# Altium footprint library K60_100.PcbLib: 2 footprints
Each footprint in its own frame and in the unit in brackets; x right, y up, seen from the top. Pads: shape width x height; smd on the part's side, far side on the other; paste and mask are expansions set on the pad; w line width, h text height; cw(c..) or ccw(c..) is an arc to the next point about the centre after c.
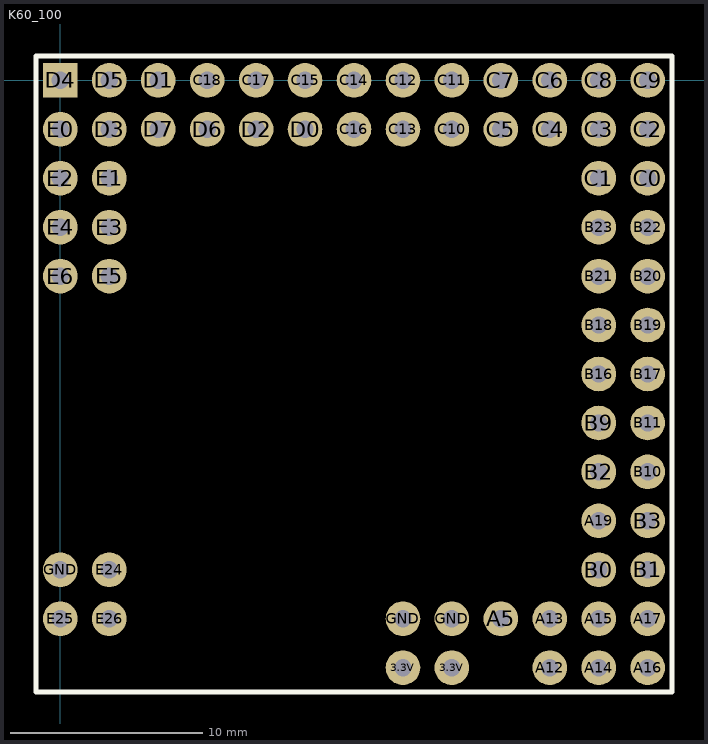
[diagram p0: the footprints below, top view; thin cyan lines are the x and y axes]

## K60_100 [mm]
pads (65):
  round 1.8 hole 0.9: 3.3V(17.78,-30.48) 3.3V(20.32,-30.48) A5(22.86,-27.94) A12(25.4,-30.48) A13(25.4,-27.94) A14(27.94,-30.48) A15(27.94,-27.94) A16(30.48,-30.48) A17(30.48,-27.94) A19(27.94,-22.86) B0(27.94,-25.4) B1(30.48,-25.4) B2(27.94,-20.32) B3(30.48,-22.86) B9(27.94,-17.78) B10(30.48,-20.32) B11(30.48,-17.78) B16(27.94,-15.24) B17(30.48,-15.24) B18(27.94,-12.7) B19(30.48,-12.7) B20(30.48,-10.16) B21(27.94,-10.16) B22(30.48,-7.62) B23(27.94,-7.62) C0(30.48,-5.08) C1(27.94,-5.08) C2(30.48,-2.54) C3(27.94,-2.54) C4(25.4,-2.54) C5(22.86,-2.54) C6(25.4,0) C7(22.86,0) C8(27.94,0) C9(30.48,0) C10(20.32,-2.54) C11(20.32,0) C12(17.78,0) C13(17.78,-2.54) C14(15.24,0) C15(12.7,0) C16(15.24,-2.54) C17(10.16,0) C18(7.62,0) D0(12.7,-2.54) D1(5.08,0) D2(10.16,-2.54) D3(2.54,-2.54) D5(2.54,0) D6(7.62,-2.54) D7(5.08,-2.54) E0(0,-2.54) E1(2.54,-5.08) E2(0,-5.08) E3(2.54,-7.62) E4(0,-7.62) E5(2.54,-10.16) E6(0,-10.16) E24(2.54,-25.4) E25(0,-27.94) E26(2.54,-27.94) GND(0,-25.4) GND(17.78,-27.94) GND(20.32,-27.94)
  rect 1.8x1.8 hole 0.9: D4(0,0)
Top Overlay:
  lines w0.254: -1.27,-31.75 -1.27,-31.369 -1.27,1.27 31.75,1.27 31.75,-31.75 -1.27,-31.75

## PCBComponent_1 [mm]